# Altium footprint library DIP, Modified - Trimmed Leads.PcbLib: 13 footprints
Each footprint in its own frame and in the unit in brackets; x right, y up, seen from the top. Pads: shape width x height; smd on the part's side, far side on the other; paste and mask are expansions set on the pad; w line width, h text height; cw(c..) or ccw(c..) is an arc to the next point about the centre after c.
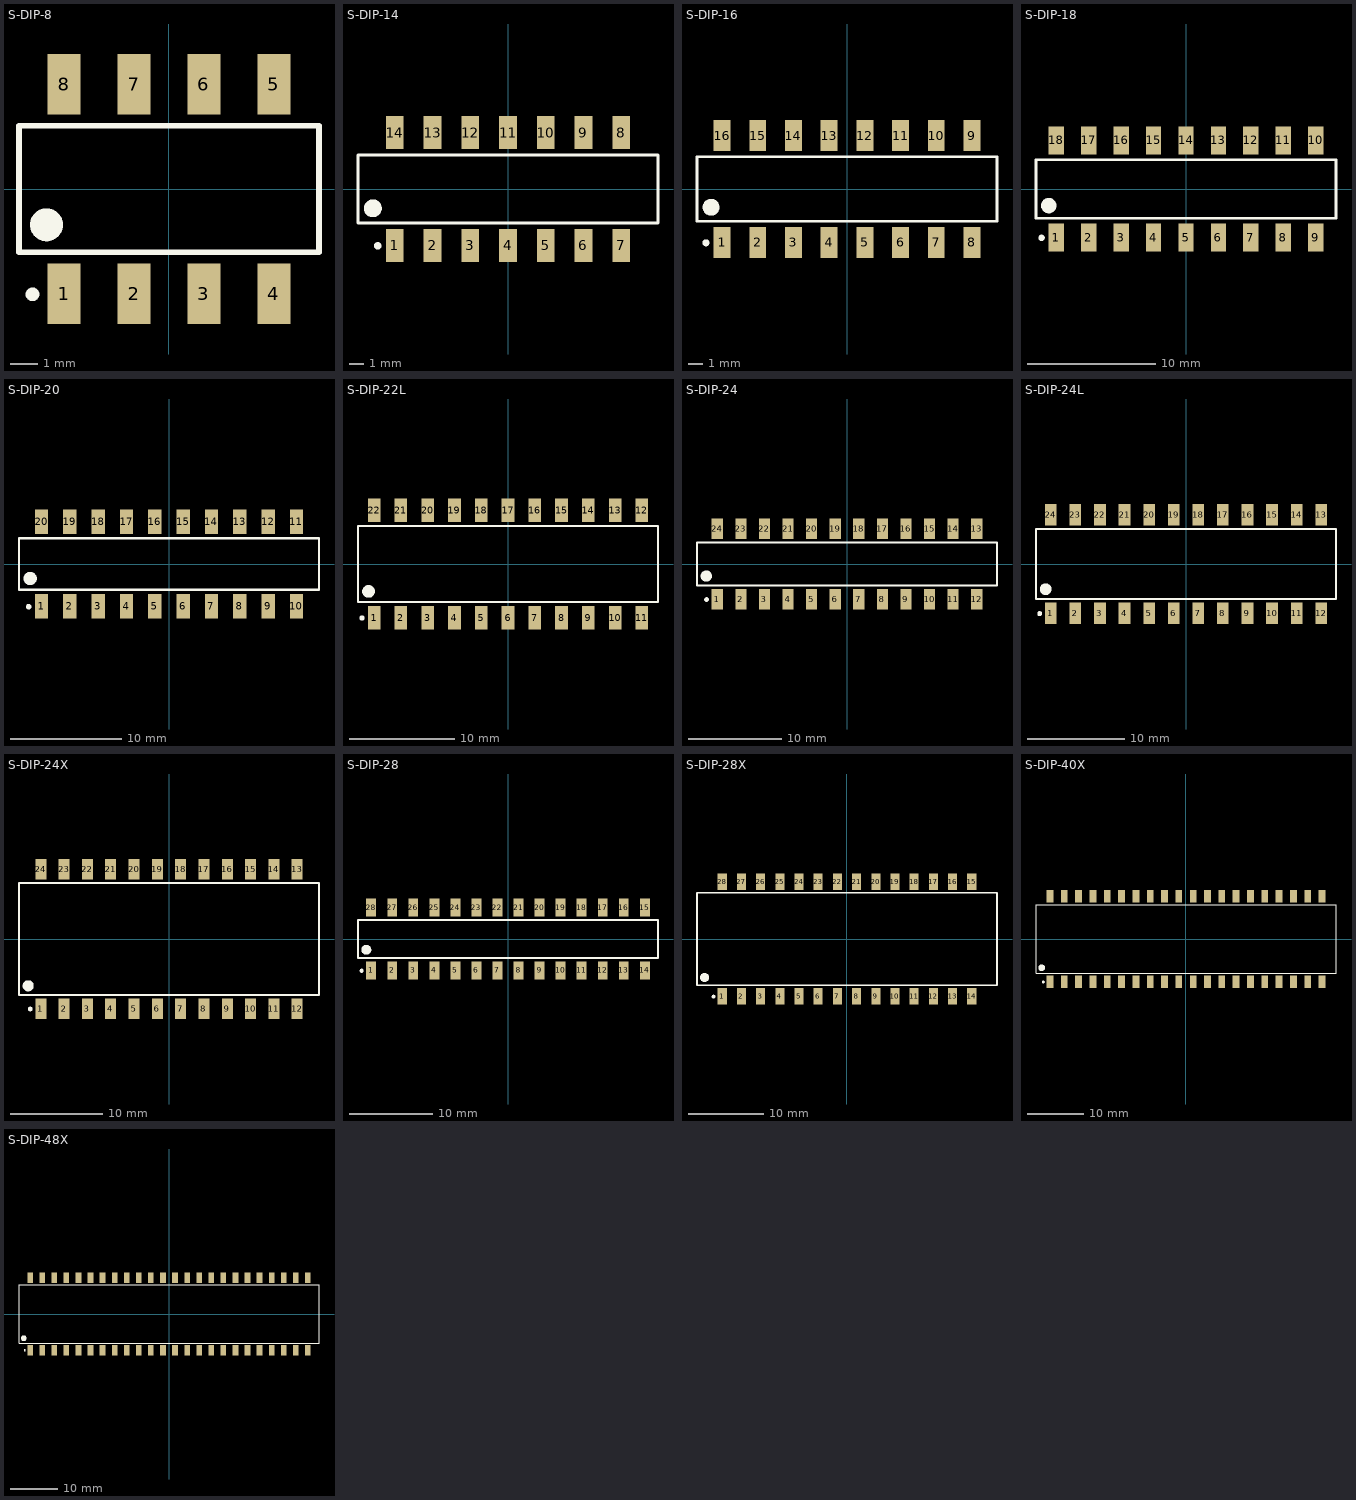
[diagram p0: the footprints below, top view; thin cyan lines are the x and y axes]

## S-DIP-8 [mm] "DIP; 8 Trim Leads; Row Spacing 7.62 mm; Pitch 2.54 mm"
height 5.58
pads (8):
  rect 1.2x2.2 smd: 1(-3.81,-3.8) 2(-1.27,-3.8) 3(1.27,-3.8) 4(3.81,-3.8) 5(3.81,3.8) 6(1.27,3.8) 7(-1.27,3.8) 8(-3.81,3.8)
Top Overlay:
  circle w0.25: c-4.96,-3.827 r0.125
  circle w0.6: c-4.45,-1.3 r0.3
  lines w0.2: -5.45,-2.3 -5.45,2.3 5.45,2.3 5.45,-2.3 -5.45,-2.3

## S-DIP-14 [mm] "DIP; 14 Trim Leads; Row Spacing 7.62 mm; Pitch 2.54 mm"
height 5.58
pads (14):
  rect 1.2x2.2 smd: 1(-7.62,-3.8) 2(-5.08,-3.8) 3(-2.54,-3.8) 4(0,-3.8) 5(2.54,-3.8) 6(5.08,-3.8) 7(7.62,-3.8) 8(7.62,3.8) 9(5.08,3.8) 10(2.54,3.8) 11(0,3.8) 12(-2.54,3.8) 13(-5.08,3.8) 14(-7.62,3.8)
Top Overlay:
  circle w0.25: c-8.77,-3.827 r0.125
  circle w0.6: c-9.1,-1.3 r0.3
  lines w0.2: -10.1,-2.3 -10.1,2.3 10.1,2.3 10.1,-2.3 -10.1,-2.3

## S-DIP-16 [mm] "DIP; 16 Trim Leads; Row Spacing 7.62 mm; Pitch 2.54 mm"
height 5.58
pads (16):
  rect 1.2x2.2 smd: 1(-8.89,-3.8) 2(-6.35,-3.8) 3(-3.81,-3.8) 4(-1.27,-3.8) 5(1.27,-3.8) 6(3.81,-3.8) 7(6.35,-3.8) 8(8.89,-3.8) 9(8.89,3.8) 10(6.35,3.8) 11(3.81,3.8) 12(1.27,3.8) 13(-1.27,3.8) 14(-3.81,3.8) 15(-6.35,3.8) 16(-8.89,3.8)
Top Overlay:
  circle w0.25: c-10.04,-3.827 r0.125
  circle w0.6: c-9.675,-1.3 r0.3
  lines w0.2: -10.675,-2.3 10.675,-2.3 10.675,2.3 -10.675,2.3 -10.675,-2.3

## S-DIP-18 [mm] "DIP; 18 Trim Leads; Row Spacing 7.62 mm; Pitch 2.54 mm"
height 5.58
pads (18):
  rect 1.2x2.2 smd: 1(-10.16,-3.8) 2(-7.62,-3.8) 3(-5.08,-3.8) 4(-2.54,-3.8) 5(0,-3.8) 6(2.54,-3.8) 7(5.08,-3.8) 8(7.62,-3.8) 9(10.16,-3.8) 10(10.16,3.8) 11(7.62,3.8) 12(5.08,3.8) 13(2.54,3.8) 14(0,3.8) 15(-2.54,3.8) 16(-5.08,3.8) 17(-7.62,3.8) 18(-10.16,3.8)
Top Overlay:
  circle w0.25: c-11.31,-3.827 r0.125
  circle w0.6: c-10.75,-1.3 r0.3
  lines w0.2: -11.75,-2.3 -11.75,2.3 11.75,2.3 11.75,-2.3 -11.75,-2.3

## S-DIP-20 [mm] "DIP; 20 Trim Leads; Row Spacing 7.62 mm; Pitch 2.54 mm"
height 5.58
pads (20):
  rect 1.2x2.2 smd: 1(-11.43,-3.8) 2(-8.89,-3.8) 3(-6.35,-3.8) 4(-3.81,-3.8) 5(-1.27,-3.8) 6(1.27,-3.8) 7(3.81,-3.8) 8(6.35,-3.8) 9(8.89,-3.8) 10(11.43,-3.8) 11(11.43,3.8) 12(8.89,3.8) 13(6.35,3.8) 14(3.81,3.8) 15(1.27,3.8) 16(-1.27,3.8) 17(-3.81,3.8) 18(-6.35,3.8) 19(-8.89,3.8) 20(-11.43,3.8)
Top Overlay:
  circle w0.25: c-12.58,-3.827 r0.125
  circle w0.6: c-12.45,-1.3 r0.3
  lines w0.2: -13.45,-2.3 13.45,-2.3 13.45,2.3 -13.45,2.3 -13.45,-2.3

## S-DIP-22L [mm] "DIP; 22 Trim Leads; Row Spacing 10.16 mm; Pitch 2.54 mm"
height 5.58
pads (22):
  rect 1.2x2.2 smd: 1(-12.7,-5.1) 2(-10.16,-5.1) 3(-7.62,-5.1) 4(-5.08,-5.1) 5(-2.54,-5.1) 6(0,-5.1) 7(2.54,-5.1) 8(5.08,-5.1) 9(7.62,-5.1) 10(10.16,-5.1) 11(12.7,-5.1) 12(12.7,5.1) 13(10.16,5.1) 14(7.62,5.1) 15(5.08,5.1) 16(2.54,5.1) 17(0,5.1) 18(-2.54,5.1) 19(-5.08,5.1) 20(-7.62,5.1) 21(-10.16,5.1) 22(-12.7,5.1)
Top Overlay:
  circle w0.25: c-13.85,-5.127 r0.125
  circle w0.6: c-13.225,-2.6 r0.3
  lines w0.2: -14.225,-3.6 14.225,-3.6 14.225,3.6 -14.225,3.6 -14.225,-3.6

## S-DIP-24 [mm] "DIP; 24 Trim Leads; Row Spacing 7.62 mm; Pitch 2.54 mm"
height 5.58
pads (24):
  rect 1.2x2.2 smd: 1(-13.97,-3.8) 2(-11.43,-3.8) 3(-8.89,-3.8) 4(-6.35,-3.8) 5(-3.81,-3.8) 6(-1.27,-3.8) 7(1.27,-3.8) 8(3.81,-3.8) 9(6.35,-3.8) 10(8.89,-3.8) 11(11.43,-3.8) 12(13.97,-3.8) 13(13.97,3.8) 14(11.43,3.8) 15(8.89,3.8) 16(6.35,3.8) 17(3.81,3.8) 18(1.27,3.8) 19(-1.27,3.8) 20(-3.81,3.8) 21(-6.35,3.8) 22(-8.89,3.8) 23(-11.43,3.8) 24(-13.97,3.8)
Top Overlay:
  circle w0.25: c-15.12,-3.827 r0.125
  circle w0.6: c-15.15,-1.3 r0.3
  lines w0.2: -16.15,-2.3 16.15,-2.3 16.15,2.3 -16.15,2.3 -16.15,-2.3

## S-DIP-24L [mm] "DIP; 24 Trim Leads; Row Spacing 10.16 mm; Pitch 2.54 mm"
height 5.58
pads (24):
  rect 1.2x2.2 smd: 1(-13.97,-5.1) 2(-11.43,-5.1) 3(-8.89,-5.1) 4(-6.35,-5.1) 5(-3.81,-5.1) 6(-1.27,-5.1) 7(1.27,-5.1) 8(3.81,-5.1) 9(6.35,-5.1) 10(8.89,-5.1) 11(11.43,-5.1) 12(13.97,-5.1) 13(13.97,5.1) 14(11.43,5.1) 15(8.89,5.1) 16(6.35,5.1) 17(3.81,5.1) 18(1.27,5.1) 19(-1.27,5.1) 20(-3.81,5.1) 21(-6.35,5.1) 22(-8.89,5.1) 23(-11.43,5.1) 24(-13.97,5.1)
Top Overlay:
  circle w0.25: c-15.12,-5.127 r0.125
  circle w0.6: c-14.5,-2.6 r0.3
  lines w0.2: -15.5,-3.6 15.5,-3.6 15.5,3.6 -15.5,3.6 -15.5,-3.6

## S-DIP-24X [mm] "DIP; 24 Trim Leads; Row Spacing 15.24 mm; Pitch 2.54 mm"
height 6.6
pads (24):
  rect 1.2x2.2 smd: 1(-13.97,-7.6) 2(-11.43,-7.6) 3(-8.89,-7.6) 4(-6.35,-7.6) 5(-3.81,-7.6) 6(-1.27,-7.6) 7(1.27,-7.6) 8(3.81,-7.6) 9(6.35,-7.6) 10(8.89,-7.6) 11(11.43,-7.6) 12(13.97,-7.6) 13(13.97,7.6) 14(11.43,7.6) 15(8.89,7.6) 16(6.35,7.6) 17(3.81,7.6) 18(1.27,7.6) 19(-1.27,7.6) 20(-3.81,7.6) 21(-6.35,7.6) 22(-8.89,7.6) 23(-11.43,7.6) 24(-13.97,7.6)
Top Overlay:
  circle w0.25: c-15.12,-7.627 r0.125
  circle w0.6: c-15.35,-5.1 r0.3
  lines w0.2: -16.35,-6.1 -16.35,6.1 16.35,6.1 16.35,-6.1 -16.35,-6.1

## S-DIP-28 [mm] "DIP; 28 Trim Leads; Row Spacing 7.62 mm; Pitch 2.54 mm"
height 5.58
pads (28):
  rect 1.2x2.2 smd: 1(-16.51,-3.8) 2(-13.97,-3.8) 3(-11.43,-3.8) 4(-8.89,-3.8) 5(-6.35,-3.8) 6(-3.81,-3.8) 7(-1.27,-3.8) 8(1.27,-3.8) 9(3.81,-3.8) 10(6.35,-3.8) 11(8.89,-3.8) 12(11.43,-3.8) 13(13.97,-3.8) 14(16.51,-3.8) 15(16.51,3.8) 16(13.97,3.8) 17(11.43,3.8) 18(8.89,3.8) 19(6.35,3.8) 20(3.81,3.8) 21(1.27,3.8) 22(-1.27,3.8) 23(-3.81,3.8) 24(-6.35,3.8) 25(-8.89,3.8) 26(-11.43,3.8) 27(-13.97,3.8) 28(-16.51,3.8)
Top Overlay:
  circle w0.25: c-17.66,-3.827 r0.125
  circle w0.6: c-17.1,-1.3 r0.3
  lines w0.2: -18.1,-2.3 18.1,-2.3 18.1,2.3 -18.1,2.3 -18.1,-2.3

## S-DIP-28X [mm] "DIP; 28 Trim Leads; Row Spacing 15.24 mm; Pitch 2.54 mm"
height 6.6
pads (28):
  rect 1.2x2.2 smd: 1(-16.51,-7.6) 2(-13.97,-7.6) 3(-11.43,-7.6) 4(-8.89,-7.6) 5(-6.35,-7.6) 6(-3.81,-7.6) 7(-1.27,-7.6) 8(1.27,-7.6) 9(3.81,-7.6) 10(6.35,-7.6) 11(8.89,-7.6) 12(11.43,-7.6) 13(13.97,-7.6) 14(16.51,-7.6) 15(16.51,7.6) 16(13.97,7.6) 17(11.43,7.6) 18(8.89,7.6) 19(6.35,7.6) 20(3.81,7.6) 21(1.27,7.6) 22(-1.27,7.6) 23(-3.81,7.6) 24(-6.35,7.6) 25(-8.89,7.6) 26(-11.43,7.6) 27(-13.97,7.6) 28(-16.51,7.6)
Top Overlay:
  circle w0.25: c-17.66,-7.627 r0.125
  circle w0.6: c-18.85,-5.1 r0.3
  lines w0.2: -19.85,-6.1 -19.85,6.1 19.85,6.1 19.85,-6.1 -19.85,-6.1

## S-DIP-40X [mm] "DIP; 40 Trim Leads; Row Spacing 15.24 mm; Pitch 2.54 mm"
height 6.6
pads (40):
  rect 1.2x2.2 smd: 1(-24.13,-7.6) 2(-21.59,-7.6) 3(-19.05,-7.6) 4(-16.51,-7.6) 5(-13.97,-7.6) 6(-11.43,-7.6) 7(-8.89,-7.6) 8(-6.35,-7.6) 9(-3.81,-7.6) 10(-1.27,-7.6) 11(1.27,-7.6) 12(3.81,-7.6) 13(6.35,-7.6) 14(8.89,-7.6) 15(11.43,-7.6) 16(13.97,-7.6) 17(16.51,-7.6) 18(19.05,-7.6) 19(21.59,-7.6) 20(24.13,-7.6) 21(24.13,7.6) 22(21.59,7.6) 23(19.05,7.6) 24(16.51,7.6) 25(13.97,7.6) 26(11.43,7.6) 27(8.89,7.6) 28(6.35,7.6) 29(3.81,7.6) 30(1.27,7.6) 31(-1.27,7.6) 32(-3.81,7.6) 33(-6.35,7.6) 34(-8.89,7.6) 35(-11.43,7.6) 36(-13.97,7.6) 37(-16.51,7.6) 38(-19.05,7.6) 39(-21.59,7.6) 40(-24.13,7.6)
Top Overlay:
  circle w0.25: c-25.28,-7.627 r0.125
  circle w0.6: c-25.6,-5.1 r0.3
  lines w0.2: -26.6,-6.1 26.6,-6.1 26.6,6.1 -26.6,6.1 -26.6,-6.1

## S-DIP-48X [mm] "DIP; 48 Trim Leads; Row Spacing 15.24 mm; Pitch 2.54 mm"
height 6.6
pads (48):
  rect 1.2x2.2 smd: 1(-29.21,-7.6) 2(-26.67,-7.6) 3(-24.13,-7.6) 4(-21.59,-7.6) 5(-19.05,-7.6) 6(-16.51,-7.6) 7(-13.97,-7.6) 8(-11.43,-7.6) 9(-8.89,-7.6) 10(-6.35,-7.6) 11(-3.81,-7.6) 12(-1.27,-7.6) 13(1.27,-7.6) 14(3.81,-7.6) 15(6.35,-7.6) 16(8.89,-7.6) 17(11.43,-7.6) 18(13.97,-7.6) 19(16.51,-7.6) 20(19.05,-7.6) 21(21.59,-7.6) 22(24.13,-7.6) 23(26.67,-7.6) 24(29.21,-7.6) 25(29.21,7.6) 26(26.67,7.6) 27(24.13,7.6) 28(21.59,7.6) 29(19.05,7.6) 30(16.51,7.6) 31(13.97,7.6) 32(11.43,7.6) 33(8.89,7.6) 34(6.35,7.6) 35(3.81,7.6) 36(1.27,7.6) 37(-1.27,7.6) 38(-3.81,7.6) 39(-6.35,7.6) 40(-8.89,7.6) 41(-11.43,7.6) 42(-13.97,7.6) 43(-16.51,7.6) 44(-19.05,7.6) 45(-21.59,7.6) 46(-24.13,7.6) 47(-26.67,7.6) 48(-29.21,7.6)
Top Overlay:
  circle w0.25: c-30.36,-7.627 r0.125
  circle w0.6: c-30.55,-5.1 r0.3
  lines w0.2: -31.55,-6.1 31.55,-6.1 31.55,6.1 -31.55,6.1 -31.55,-6.1